# Altium schematic symbol library DC-DC.SchLib: 1 symbol
Pins are listed as number, name and electrical type; pins without a type are passive.

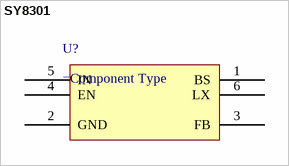
[diagram p0: symbol SY8301]

## SY8301
designator U?
pins: 1 BS, 2 GND, 3 FB, 4 EN, 5 IN, 6 LX